# Altium schematic symbol library schematic.SchLib: 16 symbols
Pins are listed as number, name and electrical type; pins without a type are passive.

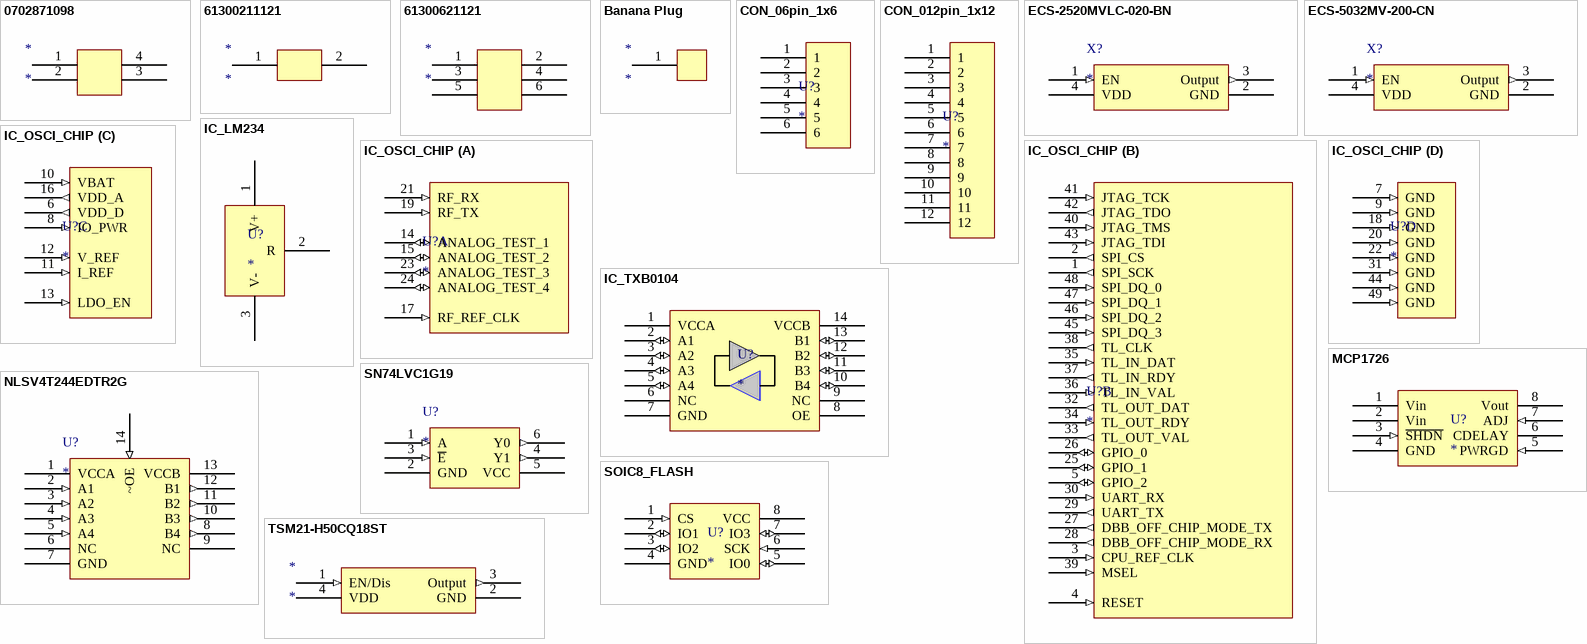
[diagram p0: symbols 0702871098 to TSM21-H50CQ18ST]

## 0702871098
designator *
pins: 1 (power), 2 (power), 3 (power), 4 (power)

## 61300211121
designator *
pins: 1, 2

## 61300621121
designator *
pins: 1, 2, 3, 4, 5, 6

## Banana Plug
designator *
pins: 1

## CON_06pin_1x6
designator U?
pins: 1, 2, 3, 4, 5, 6

## CON_012pin_1x12
designator U?
pins: 1, 2, 3, 4, 5, 6, 7, 8, 9, 10, 11, 12

## ECS-2520MVLC-020-BN
designator X?
2MHz CMOS Oscillator, 1.6 - 3.6V
pins: 1 EN (in), 2 GND (power), 3 Output (out), 4 VDD (power)

## ECS-5032MV-200-CN
designator X?
20 MHz HCMOS Oscillator, 1.6 - 3.6V
pins: 1 EN (in), 2 GND (power), 3 Output (out), 4 VDD (power)

## IC_LM234
designator U?
3-Terminal Adjustable Current Sources
pins: 1 V+, 2 R, 3 V-

## IC_OSCI_CHIP
designator U?
EE290C Tapeout Class IC
part A pins: 14 ANALOG_TEST_1 (io), 15 ANALOG_TEST_2 (io), 17 RF_REF_CLK (in), 19 RF_TX (in), 21 RF_RX (in), 23 ANALOG_TEST_3 (io), 24 ANALOG_TEST_4 (io)
part B pins: 1 SPI_SCK (out), 2 SPI_CS (out), 3 CPU_REF_CLK (in), 4 RESET (in), 5 GPIO_2 (io), 25 GPIO_1 (io), 26 GPIO_0 (io), 27 DBB_OFF_CHIP_MODE_TX (out), 28 DBB_OFF_CHIP_MODE_RX (out), 29 UART_TX (out), 30 UART_RX (in), 32 TL_OUT_DAT (out), 33 TL_OUT_VAL (out), 34 TL_OUT_RDY (in), 35 TL_IN_DAT (in), 36 TL_IN_VAL (in), 37 TL_IN_RDY (out), 38 TL_CLK (out), 39 MSEL (in), 40 JTAG_TMS (in), 41 JTAG_TCK (in), 42 JTAG_TDO (out), 43 JTAG_TDI (in), 45 SPI_DQ_3 (in), 46 SPI_DQ_2 (in), 47 SPI_DQ_1 (in), 48 SPI_DQ_0 (in)
part C pins: 6 VDD_D (out), 8 IO_PWR (in), 10 VBAT (in), 11 I_REF (in), 12 V_REF (in), 13 LDO_EN (in), 16 VDD_A (out)
part D pins: 7 GND (in), 9 GND (in), 18 GND (in), 20 GND (in), 22 GND (in), 31 GND (in), 44 GND (in), 49 GND (in)

## IC_TXB0104
designator U?
4-Bit Bidirectional Voltage-level Translator With Automatic Direction / Sensing
pins: 1 VCCA, 2 A1 (io), 3 A2 (io), 4 A3 (io), 5 A4 (io), 6 NC, 7 GND (power), 8 OE, 9 NC, 10 B4 (io), 11 B3 (io), 12 B2 (io), 13 B1 (io), 14 VCCB

## MCP1726
designator U?
1A, Low-Voltage, Low Quiescent Current LDO Regulator
pins: 1 Vin (power), 2 Vin (power), 3 ~{SHDN} (in), 4 GND (power), 5 PWRGD (in), 6 CDELAY, 7 ADJ (in), 8 Vout (power)

## NLSV4T244EDTR2G
designator U?
Non-Inverting Level / Translator, Dual-Supply, / 4-Bit, TSSOP-14
pins: 1 VCCA (power), 2 A1 (in), 3 A2 (in), 4 A3 (in), 5 A4 (in), 6 NC, 7 GND (power), 8 B4 (out), 9 NC, 10 B3 (out), 11 B2 (out), 12 B1 (out), 13 VCCB (power), 14 ~OE (in)

## SN74LVC1G19
designator U?
1-of-2 Decoder and Demultiplexer
pins: 1 A (in), 2 GND (power), 3 ~{E} (in), 4 Y1 (out), 5 VCC (power), 6 Y0 (out)

## SOIC8_FLASH
designator U?
pins: 1 CS (in), 2 IO1 (io), 3 IO2 (io), 4 GND (power), 5 IO0 (io), 6 SCK (in), 7 IO3 (io), 8 VCC (power)

## TSM21-H50CQ18ST
designator *
1.8V HCMOS Oscillator
pins: 1 EN/Dis (in), 2 GND (power), 3 Output (out), 4 VDD (power)